# EAGLE library part MAX1586-A/B/C (library diode-20CJQ030)
Maxim's MAX1586/MAX1587 High-Efficiency, Low-IQ PMICs with Dynamic Core for PDAs and Smart Phones General Description: The MAX1586/MAX1587 power-management ICs are optimized for devices using Intel X-Scale microprocessors, including Smart Phones, PDAs, internet appliances, and other portable devices requiring substantial computing and multimedia capability at low power. The ICs integrate seven high-performance, low-operatingcurrent power supplies along with supervisory and management functions. Included are three step-down DC-DC outputs, three linear regulators, and a seventh always-on output. DC-DC converters power I/O, DRAM, and the CPU core. The I/O supply can be preset to 3.3V or adjusted to other values. The DRAM supply on the A and C devices is preset for 1.8V or 2.5V, while the MAX1586B DRAM supply is preset for 3.3V or 2.5V. The DRAM supply on all parts can also be adjusted with external resistors. The CPU core supply is serial programmed for dynamic voltage management and, on C devices, can supply up to 0.9A. Linear-regulated outputs are provided for SRAM, PLL, and USIM supplies. To minimize quiescent current, critical power supplies have bypass 'sleep' LDOs that can be activated when output current is very low. Other functions include separate on/off control for all DC-DC converters, low-battery and dead-battery detection, a reset and power-OK output, a backup-battery input, and a two-wire serial interface. All DC-DC outputs use fast, 1MHz PWM switching and small external components. They operate with fixed-frequency PWM control and automatically switch from PWM to skip-mode operation at light loads to reduce operating current and extend battery life. The core output can be forced into PWM mode at all loads to minimize noise. A 2.6V to 5.5V input voltage range allows 1-cell lithium-ion (Li+), 3-cell NiMH, or a regulated 5V input. The MAX1587 is available in a tiny 6mm x 6mm, 40-pin thin QFN package. The MAX1586 features an additional linear regulator (V6) for VCC_USIM and lowbattery and dead- battery comparators. The MAX1586 is available in a 7mm x 7mm, 48-pin thin QFN package. Features: Six Regulators in One Package - Step-Down DC-DC for I/O at 1.3A - Step-Down DC-DC for Memory at 0.9A - Step-Down Serial-Programmed DC-DC for CORE - Up to 0.9A - Three LDO Outputs for SRAM, PLL, and USIM - Always-On Output for VCC_BATT Low Operating Current - 60µA in Sleep Mode (Sleep LDOs On) - 130µA with DC-DCs On (Core Off) - 200µA All Regulators On, No Load - 5µA Shutdown Current Optimized for X-Scale Processors Backup-Battery Input 1MHz PWM Switching Allows Small External Components Tiny 6mm x 6mm, 40-Pin and 7mm x 7mm, 48-Pin Thin QFN Packages Applications: PDA, Palmtop, and Wireless Handhelds Third-Generation Smart Cell Phones Internet Appliances and Web-Books Please send any comments to: messi@users.sourceforge.net
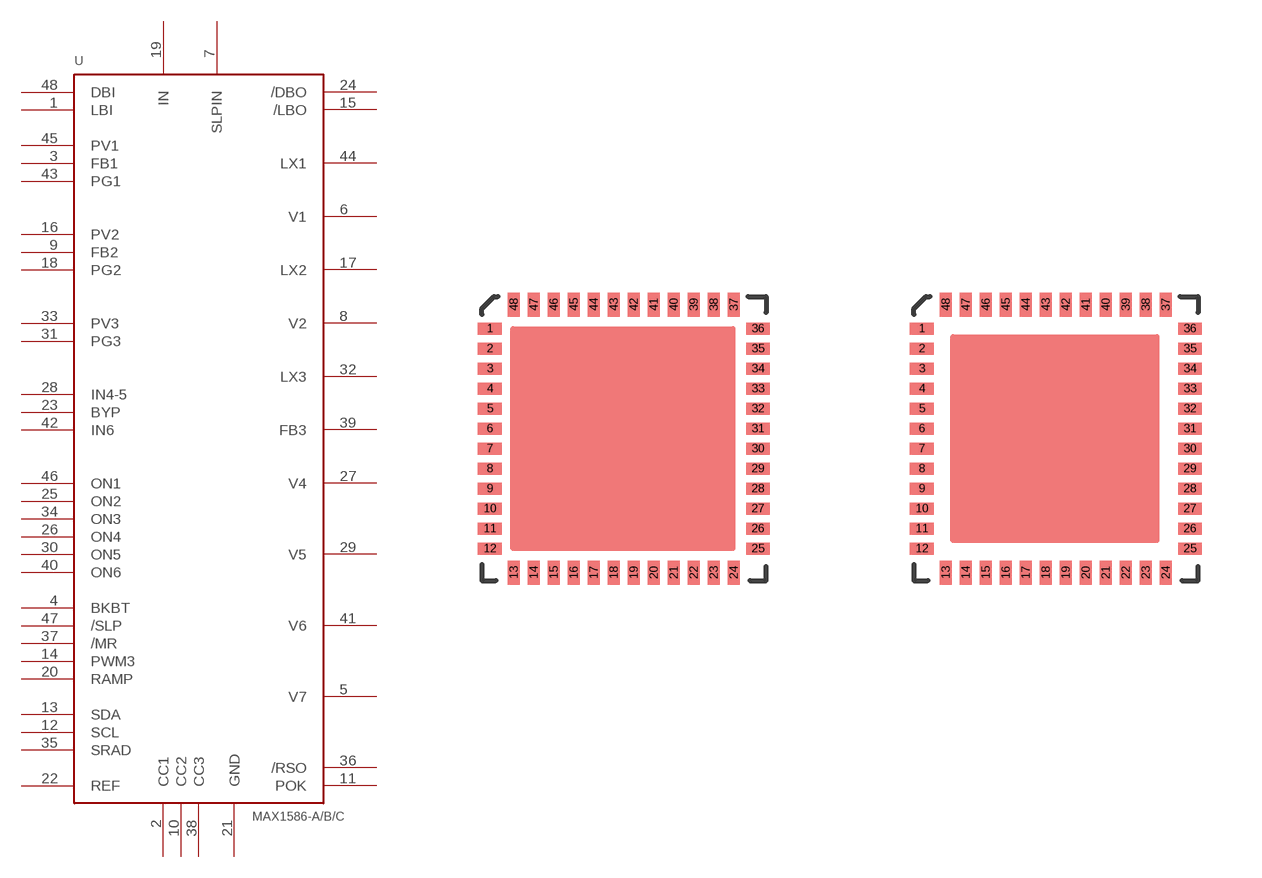
[diagram p43: symbol with the pads of TQFN48L-2/4/6; footprints TQFN48L-2/4/6, TQFN48L-3]

Designator prefix U

## MAX1586-A/B/CT4877-2/4/6  [TQFN48L-2/4/6]
1  LBI  in
2  CC1  sup
3  FB1  sup
4  BKBT  sup
5  V7  sup
6  V1  sup
7  SLPIN  pwr
8  V2  sup
9  FB2  sup
10  CC2  sup
11  POK  out
12  SCL  in
13  SDA
14  PWM3  sup
15  /LBO  out
16  PV2  sup
17  LX2  out
18  PG2  sup
19  IN  pwr
20  RAMP  sup
21  GND  pwr
22  REF  sup
23  BYP  sup
24  /DBO  out
25  ON2  in
26  ON4  in
27  V4  sup
28  IN4-5  sup
29  V5  sup
30  ON5  in
31  PG3  sup
32  LX3  out
33  PV3  sup
34  ON3  in
35  SRAD  in
36  /RSO  out
37  /MR  in
38  CC3  sup
39  FB3  in
40  ON6  in
41  V6  sup
42  IN6  sup
43  PG1  sup
44  LX1  out
45  PV1  sup
46  ON1  in
47  /SLP  in
48  DBI  in

## MAX1586-A/B/CT4877-3  [TQFN48L-3]
Pads as for TQFN48L-2/4/6

## MAX1586-A/B/CT4877-5  [TQFN48L-5]
Pads as for TQFN48L-2/4/6

## Footprint TQFN48L-2/4/6 (pad centres in mm)
smd 0.6 x 0.3: 1 -3.32,2.75; 2 -3.32,2.25; 3 -3.32,1.75; 4 -3.32,1.25; 5 -3.32,0.75; 6 -3.32,0.25; 7 -3.32,-0.25; 8 -3.32,-0.75; 9 -3.32,-1.25; 10 -3.32,-1.75; 11 -3.32,-2.25; 12 -3.32,-2.75; 25 3.38,-2.75; 26 3.38,-2.25; 27 3.38,-1.75; 28 3.38,-1.25; 29 3.38,-0.75; 30 3.38,-0.25; 31 3.38,0.25; 32 3.38,0.75; 33 3.38,1.25; 34 3.38,1.75; 35 3.38,2.25; 36 3.38,2.75
smd 0.3 x 0.6: 13 -2.72,-3.35; 14 -2.22,-3.35; 15 -1.72,-3.35; 16 -1.22,-3.35; 17 -0.72,-3.35; 18 -0.22,-3.35; 19 0.28,-3.35; 20 0.78,-3.35; 21 1.28,-3.35; 22 1.78,-3.35; 23 2.28,-3.35; 24 2.78,-3.35; 37 2.78,3.35; 38 2.28,3.35; 39 1.78,3.35; 40 1.28,3.35; 41 0.78,3.35; 42 0.28,3.35; 43 -0.22,3.35; 44 -0.72,3.35; 45 -1.22,3.35; 46 -1.72,3.35; 47 -2.22,3.35; 48 -2.72,3.35

## Footprint TQFN48L-3 (pad centres in mm)
smd 0.6 x 0.3: 1 -3.32,2.75; 2 -3.32,2.25; 3 -3.32,1.75; 4 -3.32,1.25; 5 -3.32,0.75; 6 -3.32,0.25; 7 -3.32,-0.25; 8 -3.32,-0.75; 9 -3.32,-1.25; 10 -3.32,-1.75; 11 -3.32,-2.25; 12 -3.32,-2.75; 25 3.38,-2.75; 26 3.38,-2.25; 27 3.38,-1.75; 28 3.38,-1.25; 29 3.38,-0.75; 30 3.38,-0.25; 31 3.38,0.25; 32 3.38,0.75; 33 3.38,1.25; 34 3.38,1.75; 35 3.38,2.25; 36 3.38,2.75
smd 0.3 x 0.6: 13 -2.72,-3.35; 14 -2.22,-3.35; 15 -1.72,-3.35; 16 -1.22,-3.35; 17 -0.72,-3.35; 18 -0.22,-3.35; 19 0.28,-3.35; 20 0.78,-3.35; 21 1.28,-3.35; 22 1.78,-3.35; 23 2.28,-3.35; 24 2.78,-3.35; 37 2.78,3.35; 38 2.28,3.35; 39 1.78,3.35; 40 1.28,3.35; 41 0.78,3.35; 42 0.28,3.35; 43 -0.22,3.35; 44 -0.72,3.35; 45 -1.22,3.35; 46 -1.72,3.35; 47 -2.22,3.35; 48 -2.72,3.35

## Footprint TQFN48L-5 (pad centres in mm)
smd 0.6 x 0.3: 1 -3.32,2.75; 2 -3.32,2.25; 3 -3.32,1.75; 4 -3.32,1.25; 5 -3.32,0.75; 6 -3.32,0.25; 7 -3.32,-0.25; 8 -3.32,-0.75; 9 -3.32,-1.25; 10 -3.32,-1.75; 11 -3.32,-2.25; 12 -3.32,-2.75; 25 3.38,-2.75; 26 3.38,-2.25; 27 3.38,-1.75; 28 3.38,-1.25; 29 3.38,-0.75; 30 3.38,-0.25; 31 3.38,0.25; 32 3.38,0.75; 33 3.38,1.25; 34 3.38,1.75; 35 3.38,2.25; 36 3.38,2.75
smd 0.3 x 0.6: 13 -2.72,-3.35; 14 -2.22,-3.35; 15 -1.72,-3.35; 16 -1.22,-3.35; 17 -0.72,-3.35; 18 -0.22,-3.35; 19 0.28,-3.35; 20 0.78,-3.35; 21 1.28,-3.35; 22 1.78,-3.35; 23 2.28,-3.35; 24 2.78,-3.35; 37 2.78,3.35; 38 2.28,3.35; 39 1.78,3.35; 40 1.28,3.35; 41 0.78,3.35; 42 0.28,3.35; 43 -0.22,3.35; 44 -0.72,3.35; 45 -1.22,3.35; 46 -1.72,3.35; 47 -2.22,3.35; 48 -2.72,3.35